# EAGLE library part ZX62D-AB-5P8 (library con-usb)
Micro-AB OTG Receptacle Hirose
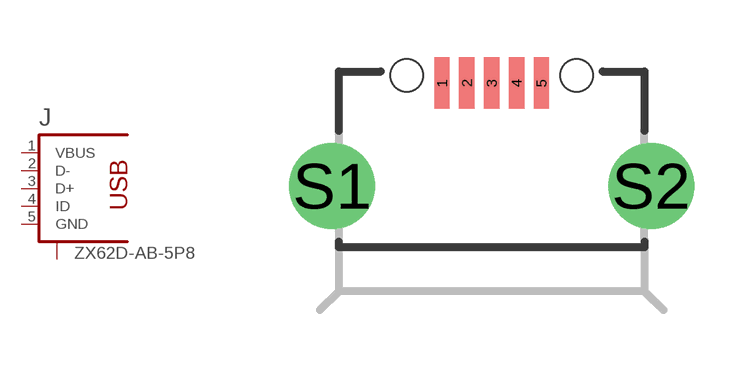
[diagram p4: symbol with the pads of ZX62D-AB-5P8; footprint ZX62D-AB-5P8]

Designator prefix J

## ZX62D-AB-5P8  [ZX62D-AB-5P8]
1  VBUS  pas
2  D-  pas
3  D+  pas
4  ID  pas
5  GND  pas
S1  S1  pas
S2  S2  pas

## Footprint ZX62D-AB-5P8 (pad centres in mm)
USB - micro AB, Hirose
smd 0.4 x 1.35: 1 -1.3,2.7; 2 -0.65,2.7; 3 0,2.7; 4 0.65,2.7; 5 1.3,2.7
drill 1.5: S1 -4.175,0; S2 4.175,0
hole 0.85 at -2.225,2.9
hole 0.85 at 2.225,2.9